# Altium schematic symbol library Transistor_IGBT.SchLib: 2 symbols
Pins are listed as number, name and electrical type; pins without a type are passive.

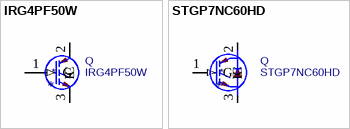
[diagram p0: symbols IRG4PF50W to STGP7NC60HD]

## IRG4PF50W
designator *  value IRG4PF50W  Reference: Q
28A, 900V, N-Channel IGBT; ki_keywords: N-Channel IGBT Power Transistor; ki_fp_filters: TO?247*; Footprint: Package_TO_SOT_THT:TO-247-3_Vertical; Datasheet: http://www.irf.com/product-info/datasheets/data/irg4pf50w.pdf; Description_: 28A, 900V, N-Channel IGBT
pins: 1 G (in), 2 C, 3 E

## STGP7NC60HD
designator *  value STGP7NC60HD  Reference: Q
25A, 600V, N-Channel IGBT, TO-220; ki_keywords: N-Channel very fast IGBT with ultrafast diode Power Transistor; ki_fp_filters: TO?220*; Footprint: Package_TO_SOT_THT:TO-220-3_Vertical; Datasheet: http://www.farnell.com/datasheets/2309889.pdf; Description_: 25A, 600V, N-Channel IGBT, TO-220
pins: 1 G (in), 2 C, 3 E